# Altium footprint library KeyBoard.PcbLib: 4 footprints
Each footprint in its own frame and in the unit in brackets; x right, y up, seen from the top. Pads: shape width x height; smd on the part's side, far side on the other; paste and mask are expansions set on the pad; w line width, h text height; cw(c..) or ccw(c..) is an arc to the next point about the centre after c.
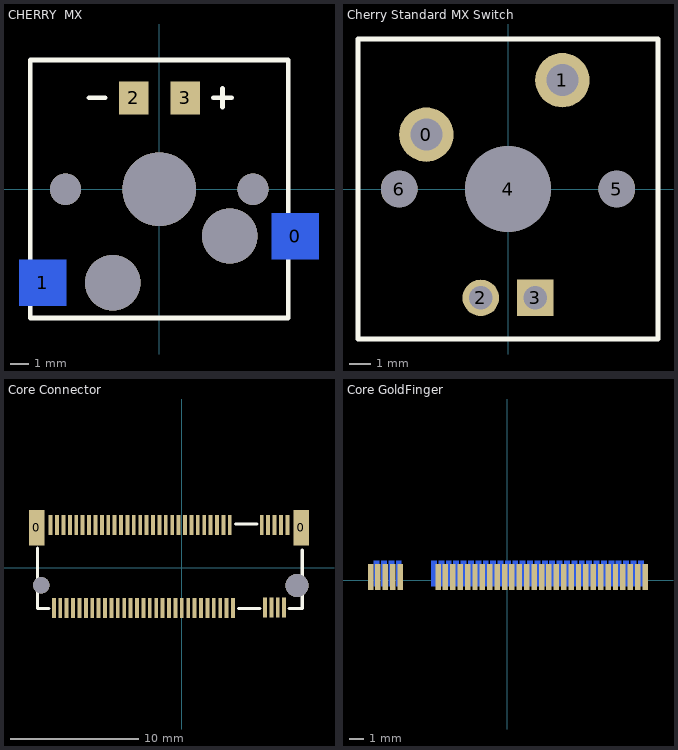
[diagram p0: the footprints below, top view; thin cyan lines are the x and y axes]

## CHERRY  MX [mm] "带热插拔"
pads (4):
  rect 2.55x2.5 smd far side: 0(7.386,-2.54) 1(-6.33,-5.08)
  rect 1.6x1.801 smd: 2(-1.394,4.949) 3(1.401,4.949)
via 3.829,-2.539 diameter 3 hole 3
via -2.521,-5.079 diameter 3 hole 3
via 5.08,0 diameter 1.7 hole 1.7
via 0,0 diameter 4 hole 4
via -5.08,0 diameter 1.7 hole 1.7
Top Overlay:
  lines w0.254: -3.81,4.953 -2.921,4.953 ; 2.921,4.953 3.937,4.953 ; 3.429,4.445 3.429,5.461 ; -7,-6.985 7,-6.985 7,7.009 -6.985,7.009 -6.985,6.985 -7,6.985 -7,-6.985

## Cherry Standard MX Switch [mm]
pads (7):
  round 2.54 hole 1.5: 0(-3.81,2.54) 1(2.54,5.08)
  round 1.702 hole 1.092: 2(-1.27,-5.08)
  rect 1.702x1.702 hole 1.092: 3(1.27,-5.08)
  round 4 hole 4: 4(0,0)
  round 1.712 hole 1.712 unplated: 5(5.08,0)
  round 1.712 hole 1.712: 6(-5.08,0)
Top Overlay:
  lines w0.254: -7,-7 7,-7 7,7 -7,7 -7,-7

## Core Connector [mm]
pads (69):
  rect 1.2x2.75 smd: 0(-11.366,3.132) 0(9.334,3.132)
  rect 0.3x1.55 smd: 1(-10.266,3.352) 2(-10.016,-3.128) 3(-9.766,3.352) 4(-9.516,-3.128) 5(-9.266,3.352) 6(-9.016,-3.128) 7(-8.766,3.352) 8(-8.516,-3.128) 9(-8.266,3.352) 10(-8.016,-3.128) 11(-7.766,3.352) 12(-7.516,-3.128) 13(-7.266,3.352) 14(-7.016,-3.128) 15(-6.766,3.352) 16(-6.516,-3.128) 17(-6.266,3.352) 18(-6.016,-3.128) 19(-5.766,3.352) 20(-5.516,-3.128) 21(-5.266,3.352) 22(-5.016,-3.128) 23(-4.766,3.352) 24(-4.516,-3.128) 25(-4.266,3.352) 26(-4.016,-3.128) 27(-3.766,3.352) 28(-3.516,-3.128) 29(-3.266,3.352) 30(-3.016,-3.128) 31(-2.766,3.352) 32(-2.516,-3.128) 33(-2.266,3.352) 34(-2.016,-3.128) 35(-1.766,3.352) 36(-1.516,-3.128) 37(-1.266,3.352) 38(-1.016,-3.128) 39(-0.766,3.352) 40(-0.516,-3.128) 41(-0.266,3.352) 42(-0.016,-3.128) 43(0.234,3.352) 44(0.484,-3.128) 45(0.734,3.352) 46(0.984,-3.128) 47(1.234,3.352) 48(1.484,-3.128) 49(1.734,3.352) 50(1.984,-3.128) 51(2.234,3.352) 52(2.484,-3.128) 53(2.734,3.352) 54(2.984,-3.128) 55(3.234,3.352) 56(3.484,-3.128) 57(3.734,3.352) 58(3.984,-3.128) 67(6.234,3.352) 68(6.484,-3.098) 69(6.734,3.352) 70(6.984,-3.098) 71(7.234,3.352) 72(7.484,-3.098) 73(7.734,3.352) 74(7.984,-3.098) 75(8.234,3.352)
via -11.016,-1.368 diameter 1.3 hole 1.3
via 8.984,-1.368 diameter 1.8 hole 1.8
Top Overlay:
  lines w0.254: -11.303,1.524 -11.303,-3.175 -10.414,-3.175 ; 4.191,3.429 5.842,3.429 ; 4.445,-3.175 6.096,-3.175 ; 8.382,-3.175 9.271,-3.175 9.398,-3.175 9.398,-3.048 9.398,1.397

## Core GoldFinger [mm]
pads (67):
  rect 0.368x1.75 smd: 0(9.371,0.236) 2(8.868,0.236) 4(8.366,0.236) 6(7.864,0.236) 8(7.362,0.236) 10(6.86,0.236) 12(6.358,0.236) 14(5.856,0.236) 16(5.354,0.236) 18(4.852,0.236) 20(4.349,0.236) 22(3.847,0.236) 24(3.345,0.236) 26(2.843,0.236) 28(2.341,0.236) 30(1.839,0.236) 32(1.337,0.236) 34(0.835,0.236) 36(0.333,0.236) 38(-0.169,0.236) 40(-0.672,0.236) 42(-1.174,0.236) 44(-1.676,0.236) 46(-2.178,0.236) 48(-2.68,0.236) 50(-3.182,0.236) 52(-3.684,0.236) 54(-4.186,0.236)
  rect 0.368x1.75 smd far side: 1(9.08,0.468) 3(8.579,0.468) 5(8.078,0.468) 7(7.576,0.468) 9(7.075,0.468) 11(6.574,0.468) 13(6.072,0.468) 15(5.571,0.468) 17(5.069,0.468) 19(4.568,0.468) 21(4.067,0.468) 23(3.565,0.468) 25(3.064,0.468) 27(2.563,0.468) 29(2.061,0.468) 31(1.56,0.468) 33(1.058,0.468) 35(0.557,0.468) 37(0.056,0.468) 39(-0.446,0.468) 41(-0.947,0.468) 43(-1.448,0.468) 45(-1.95,0.468) 47(-2.451,0.468) 49(-2.953,0.468) 51(-3.454,0.468) 53(-3.955,0.468) 55(-4.457,0.468) 57(-4.958,0.468) 68(-7.354,0.468) 70(-7.854,0.468) 72(-8.354,0.468) 74(-8.854,0.468)
  rect 0.375x1.75 smd: 56(-4.685,0.236) 67(-7.243,0.236) 69(-7.751,0.236) 71(-8.259,0.236) 73(-8.767,0.236) 75(-9.243,0.236)
Drill Drawing:
  lines w0.1: -9.779,-0.889 -9.779,3.111 10.046,3.111 10.046,-0.889 -5.405,-0.889 -5.405,1.778 ccw(c-6.03,1.788) -6.655,1.765 -6.655,-0.889 -9.779,-0.889